# Altium footprint library PcbLib2.PcbLib: 13 footprints
Each footprint in its own frame and in the unit in brackets; x right, y up, seen from the top. Pads: shape width x height; smd on the part's side, far side on the other; paste and mask are expansions set on the pad; w line width, h text height; cw(c..) or ccw(c..) is an arc to the next point about the centre after c.
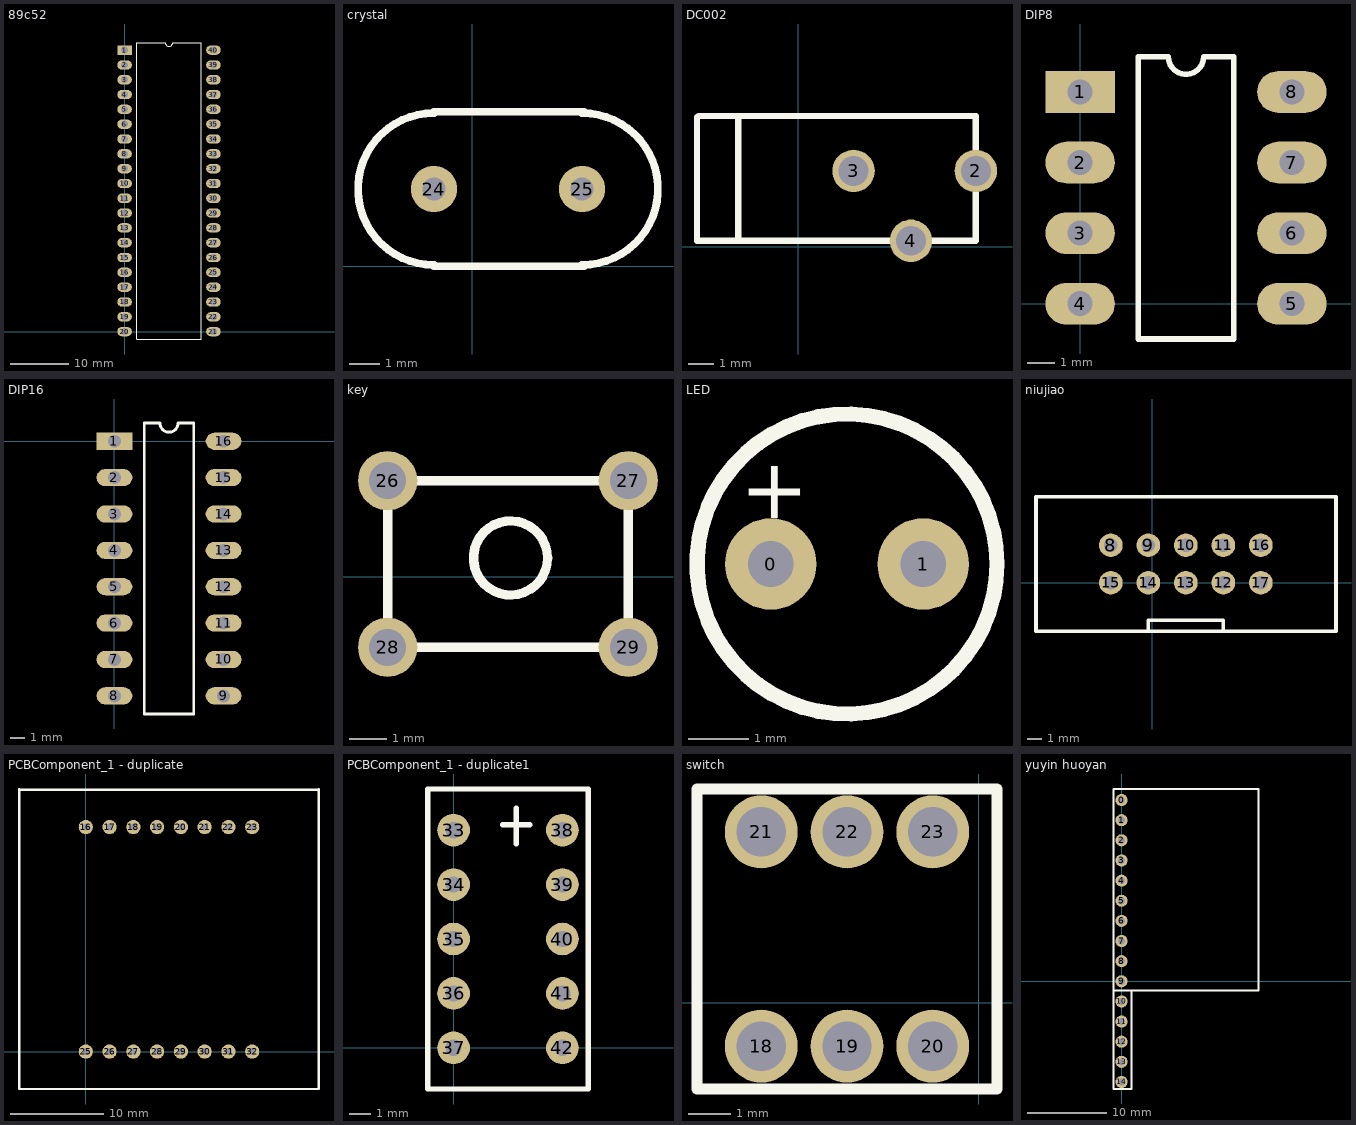
[diagram p0: the footprints below, top view; thin cyan lines are the x and y axes]

## 89c52 [mm]
pads (40):
  rect 2.5x1.6 hole 1.2: 1(0,48.26)
  oval 2.5x1.6 hole 1.2: 2(0,45.72) 3(0,43.18) 4(0,40.64) 5(0,38.1) 6(0,35.56) 7(0,33.02) 8(0,30.48) 9(0,27.94) 10(0,25.4) 11(0,22.86) 12(0,20.32) 13(0,17.78) 14(0,15.24) 15(0,12.7) 16(0,10.16) 17(0,7.62) 18(0,5.08) 19(0,2.54) 20(0,0) 21(15.24,0) 22(15.24,2.54) 23(15.24,5.08) 24(15.24,7.62) 25(15.24,10.16) 26(15.24,12.7) 27(15.24,15.24) 28(15.24,17.78) 29(15.24,20.32) 30(15.24,22.86) 31(15.24,25.4) 32(15.24,27.94) 33(15.24,30.48) 34(15.24,33.02) 35(15.24,35.56) 36(15.24,38.1) 37(15.24,40.64) 38(15.24,43.18) 39(15.24,45.72) 40(15.24,48.26)
Top Overlay:
  lines w0.2: 2.085,-1.27 2.085,49.53 6.985,49.53 ccw(c7.62,49.53) 8.255,49.53 13.155,49.53 13.155,-1.27 2.085,-1.27

## crystal [mil]
pads (2):
  round 60 hole 30: 24(-50,100) 25(142.13,100)
Top Overlay:
  lines w10: -50,0 145,0 ; -50,1.57 cw(c-50,100) -50,198.43 ; -50,200 145,200 ; 141.98,198.43 cw(c142.13,100) 142.13,1.57

## DC002 [mm]
pads (3):
  round 1.7 hole 1.2: 2(7.112,3.048) 3(2.212,3.048) 4(4.512,0.248)
Top Overlay:
  lines w0.254: -4.064,0.254 -4.064,5.207 ; -3.988,0.248 7.112,0.248 ; -3.988,5.248 7.112,5.248 ; -2.413,0.254 -2.413,5.207 ; 7.112,0.254 7.112,5.207

## DIP8 [mm]
pads (8):
  rect 2.5x1.5 hole 0.9: 1(0,7.62)
  oval 2.5x1.5 hole 0.9: 2(0,5.08) 3(0,2.54) 4(0,0) 5(7.62,0) 6(7.62,2.54) 7(7.62,5.08) 8(7.62,7.62)
Top Overlay:
  lines w0.2: 2.085,-1.27 5.535,-1.27 5.535,8.89 4.445,8.89 cw(c3.81,8.89) 3.175,8.89 2.085,8.89 2.085,-1.27

## DIP16 [mm]
pads (16):
  rect 2.5x1.2 hole 0.9: 1(0,0)
  oval 2.5x1.2 hole 0.9: 2(0,-2.54) 3(0,-5.08) 4(0,-7.62) 5(0,-10.16) 6(0,-12.7) 7(0,-15.24) 8(0,-17.78) 9(7.62,-17.78) 10(7.62,-15.24) 11(7.62,-12.7) 12(7.62,-10.16) 13(7.62,-7.62) 14(7.62,-5.08) 15(7.62,-2.54) 16(7.62,0)
Top Overlay:
  lines w0.2: 2.085,-19.05 5.535,-19.05 5.535,1.27 4.445,1.27 cw(c3.81,1.27) 3.175,1.27 2.085,1.27 2.085,-19.05

## key [mm]
pads (4):
  round 1.6 hole 1: 26(2.54,2.595) 27(9.04,2.595) 28(2.54,-1.905) 29(9.04,-1.905)
Top Overlay:
  circle w0.254: c5.858,0.508 r1
  lines w0.254: 2.54,-1.905 9.04,-1.905 9.04,2.595 2.54,2.595 2.54,-1.905

## LED [mil]
pads (2):
  round 60 hole 30: 0(-280,150) 1(-180,150)
Top Overlay:
  circle w10: c-230,150 r98.43
  text "+" at -300,180 h39.37

## niujiao [mm]
pads (10):
  round 1.6 hole 0.9: 8(-2.794,2.54) 9(-0.254,2.54) 10(2.286,2.54) 11(4.826,2.54) 12(4.826,0) 13(2.286,0) 14(-0.254,0) 15(-2.794,0) 16(7.366,2.54) 17(7.366,0)
Top Overlay:
  lines w0.254: -0.254,-3.175 -0.254,-2.54 4.826,-2.54 4.826,-3.175 ; 12.436,-3.28 -7.864,-3.28 -7.864,5.82 12.436,5.82 ; 12.456,-3.28 12.456,5.82

## PCBComponent_1 [mil]

## PCBComponent_1 - duplicate [mil]
pads (16):
  round 60 hole 30: 16(0,944.88) 17(100,944.88) 18(200,944.88) 19(300,944.88) 20(400,944.88) 21(500,944.88) 22(600,944.88) 23(700,944.88) 25(0,0) 26(100,0) 27(200,0) 28(300,0) 29(400,0) 30(500,0) 31(600,0) 32(700,0)
Top Overlay:
  lines w10: -280,-154.84 -280,1105 ; -279.92,-157.48 979.92,-157.48 ; -279.92,1102.36 979.92,1102.36 ; 980,-154.84 980,1105

## PCBComponent_1 - duplicate1 [mil]
pads (10):
  round 60 hole 30: 33(0,400) 34(0,300) 35(0,200) 36(0,100) 37(0,0) 38(200,400) 39(200,300) 40(200,200) 41(200,100) 42(200,0)
Top Overlay:
  lines w10: 90,410 140,410 ; 115,375 115,410 115,440 ; -47.64,-75.59 -47.64,475.59 247.64,475.59 247.64,-75.59 -47.64,-75.59

## switch [mm]
pads (6):
  round 1.7 hole 1.15: 18(-5.08,-1.016) 19(-3.08,-1.016) 20(-1.08,-1.016) 21(-5.08,3.984) 22(-3.08,3.984) 23(-1.08,3.984)
Top Overlay:
  lines w0.254: -6.58,-2.016 -6.58,4.984 0.42,4.984 0.42,-2.016 -6.58,-2.016

## yuyin huoyan [mil]
pads (15):
  round 60 hole 35.43: 0(0,900) 1(0,800) 2(0,700) 3(0,600) 4(0,500) 5(0,400) 6(0,300) 7(0,200) 8(0,100) 9(0,0) 10(0,-100) 11(0,-200) 12(0,-300) 13(0,-400) 14(0,-500)
Top Overlay:
  lines w10: -40,-535 -40,-50 ; -40,-45 -40,955 675,955 ; -35,-535 50,-535 50,-50 ; -35,-45 680,-45 680,955